# Altium footprint library SamacSys.PcbLib: 48 footprints (part 2 of 3)
Each footprint in its own frame and in the unit in brackets; x right, y up, seen from the top. Pads: shape width x height; smd on the part's side, far side on the other; paste and mask are expansions set on the pad; w line width, h text height; cw(c..) or ccw(c..) is an arc to the next point about the centre after c.
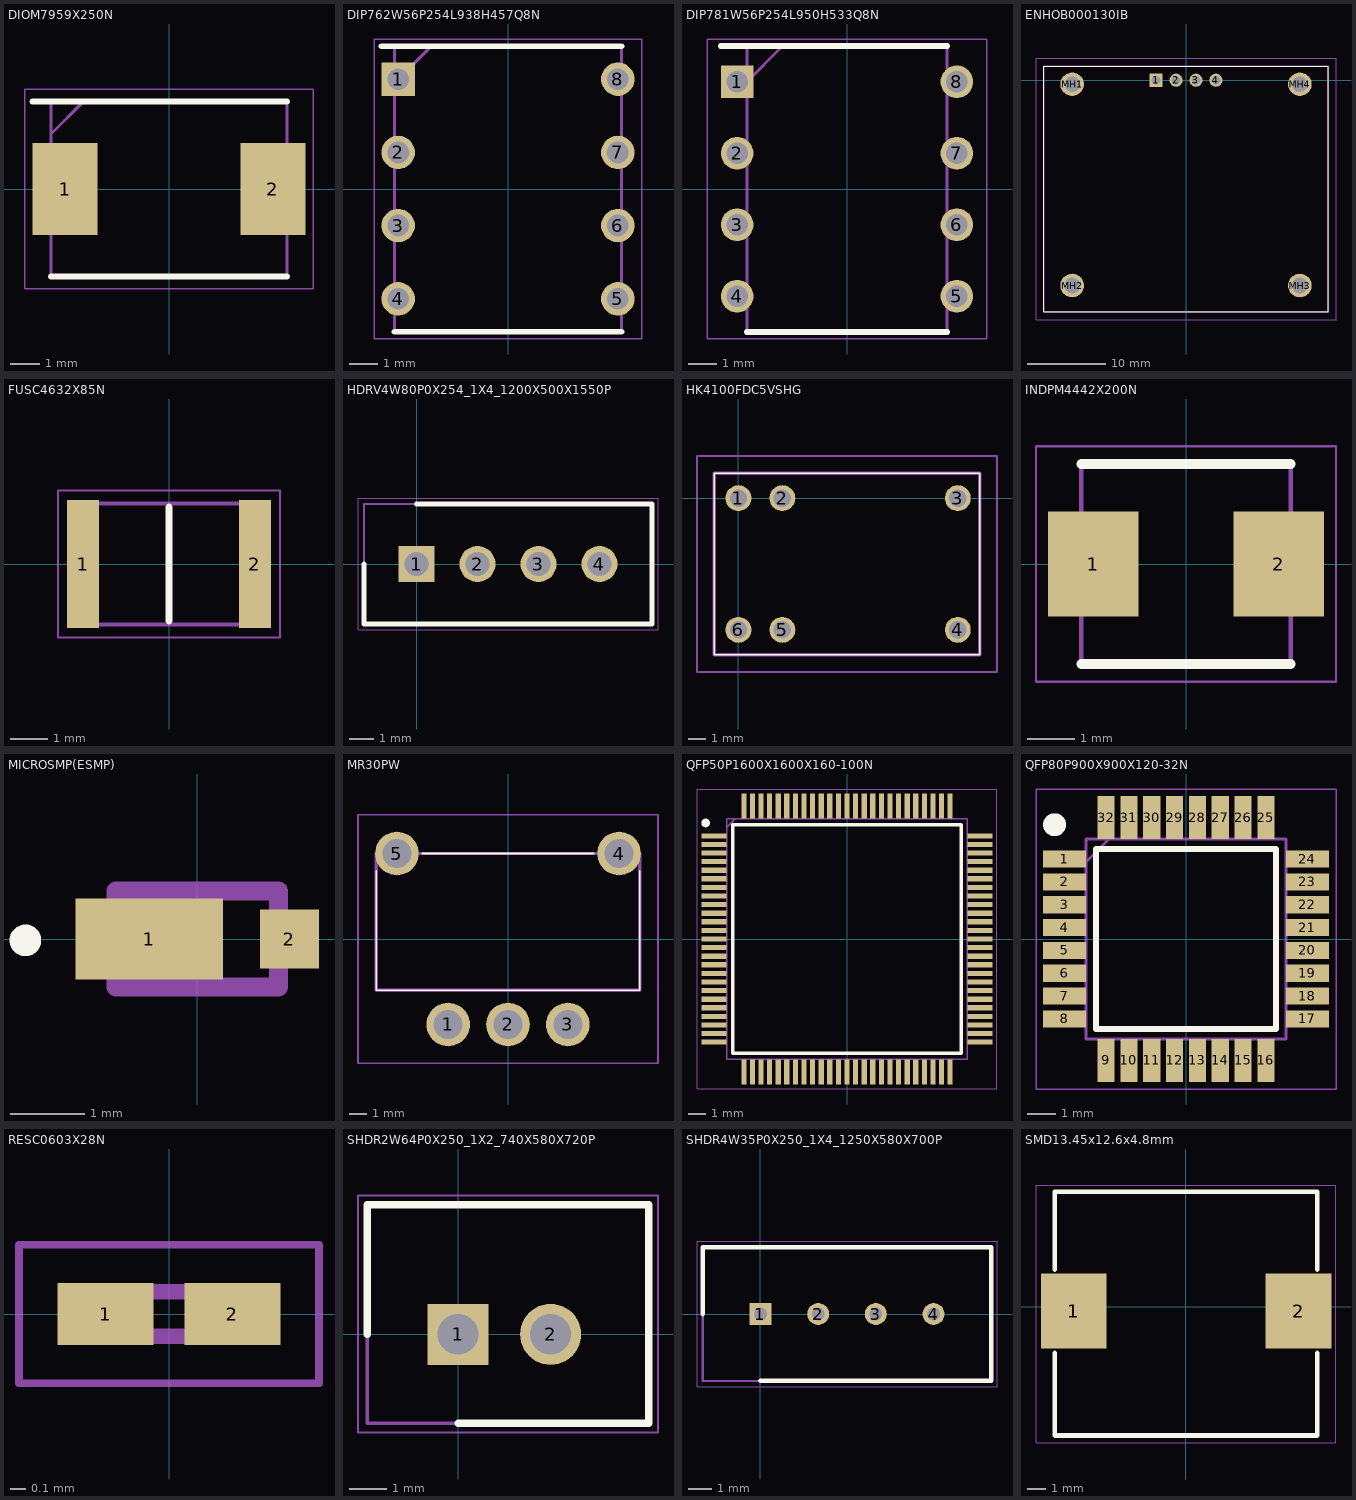
[diagram p1: the footprints below, top view; thin cyan lines are the x and y axes]

## DIOM7959X250N [mm]
pads (2):
  rect 2.2x3.1 smd: 1(-3.5,0) 2(3.5,0)
Top Overlay:
  lines w0.2: -4.6,2.952 3.97,2.952 ; -3.97,-2.952 3.97,-2.952
Mechanical 13:
  lines w0.1: -3.97,1.852 -2.87,2.952 ; -3.97,-2.952 -3.97,2.952 3.97,2.952 3.97,-2.952 -3.97,-2.952
Mechanical 15:
  lines w0.05: -4.85,-3.36 -4.85,3.36 4.85,3.36 4.85,-3.36 -4.85,-3.36
3D body "B540C-13-F.stp": height 2.5, standoff 0, extent -3.97,-2.953 3.97,2.953

## DIP762W56P254L938H457Q8N [mm]
pads (8):
  rect 1.16x1.16 hole 0.76: 1(-3.81,3.81)
  round 1.16 hole 0.76: 2(-3.81,1.27) 3(-3.81,-1.27) 4(-3.81,-3.81) 5(3.81,-3.81) 6(3.81,-1.27) 7(3.81,1.27) 8(3.81,3.81)
Top Overlay:
  lines w0.2: -4.39,4.955 3.935,4.955 ; -3.935,-4.955 3.935,-4.955
Mechanical 13:
  lines w0.1: -3.935,3.685 -2.665,4.955 ; -3.935,-4.955 -3.935,4.955 3.935,4.955 3.935,-4.955 -3.935,-4.955
Mechanical 15:
  lines w0.05: -4.64,-5.205 -4.64,5.205 4.64,5.205 4.64,-5.205 -4.64,-5.205
3D body "DS1307+.stp": height 4.57, standoff -3.5, extent -3.95,-4.687 3.95,4.687

## DIP781W56P254L950H533Q8N [mm]
pads (8):
  rect 1.159x1.159 hole 0.759: 1(-3.905,3.81)
  round 1.159 hole 0.759: 2(-3.905,1.27) 3(-3.905,-1.27) 4(-3.905,-3.81) 5(3.905,-3.81) 6(3.905,-1.27) 7(3.905,1.27) 8(3.905,3.81)
Top Overlay:
  lines w0.2: -4.485,5.08 3.556,5.08 ; -3.556,-5.08 3.556,-5.08
Mechanical 13:
  lines w0.1: -3.556,3.81 -2.286,5.08 ; -3.556,-5.08 3.556,-5.08 3.556,5.08 -3.556,5.08 -3.556,-5.08
Mechanical 15:
  lines w0.05: -4.957,-5.33 4.957,-5.33 4.957,5.33 -4.957,5.33 -4.957,-5.33
3D body "ATTINY85-20PU.stp": height 5.33, standoff -3.5, extent -4.045,-4.75 4.045,4.75

## ENHOB000130IB [mm]
pads (8):
  rect 1.665x1.665 hole 1.11: 1(-3.81,0)
  round 1.665 hole 1.11: 2(-1.27,0) 3(1.27,0) 4(3.81,0)
  round 3 hole 2: MH1(-14.5,-0.5) MH2(-14.5,-26.14) MH3(14.5,-26.14) MH4(14.5,-0.5)
Top Overlay:
  lines w0.1: -18.1,-29.5 -18.1,1.8 18.1,1.8 18.1,-29.5 -18.1,-29.5
Mechanical 13:
  lines w0.2: -18.1,-29.5 -18.1,1.8 18.1,1.8 18.1,-29.5 -18.1,-29.5
Mechanical 15:
  lines w0.1: -19.1,-30.5 -19.1,2.8 19.1,2.8 19.1,-30.5 -19.1,-30.5
3D body "ENH-OB000130IB.stp": height 4.4, standoff -5, extent -18.1,-29.5 18.1,1.8

## FUSC4632X85N [mm]
pads (2):
  rect 0.85x3.43 smd: 1(-2.3,0) 2(2.3,0)
Top Overlay:
  lines w0.2: 0,-1.52 0,1.52
Mechanical 13:
  lines w0.1: -2.275,-1.62 -2.275,1.62 2.275,1.62 2.275,-1.62 -2.275,-1.62
Mechanical 15:
  lines w0.05: -2.975,-1.965 -2.975,1.965 2.975,1.965 2.975,-1.965 -2.975,-1.965
3D body "MF-MSMF050-2.stp": height 0.85, standoff 0, extent -2.275,-1.62 2.275,1.62

## HDRV4W80P0X254_1X4_1200X500X1550P [mm]
pads (4):
  rect 1.5x1.5 hole 1: 1(0,0)
  round 1.5 hole 1: 2(2.54,0) 3(5.08,0) 4(7.62,0)
Top Overlay:
  lines w0.2: -2.19,0 -2.19,-2.5 9.81,-2.5 9.81,2.5 0,2.5
Mechanical 13:
  lines w0.1: -2.19,-2.5 9.81,-2.5 9.81,2.5 -2.19,2.5 -2.19,-2.5
Mechanical 15:
  lines w0.05: -2.44,-2.75 10.06,-2.75 10.06,2.75 -2.44,2.75 -2.44,-2.75

## HK4100FDC5VSHG [mm]
pads (6):
  round 1.5 hole 1: 1(0,0) 2(2.54,0) 3(12.7,0) 4(12.7,-7.62) 5(2.54,-7.62) 6(0,-7.62)
Top Overlay:
  lines w0.1: -1.4,-9.06 -1.4,1.44 13.97,1.44 13.97,-9.06 -1.4,-9.06
Mechanical 13:
  lines w0.2: -1.4,-9.06 -1.4,1.44 13.97,1.44 13.97,-9.06 -1.4,-9.06
Mechanical 15:
  lines w0.1: -2.4,-10.06 -2.4,2.44 14.97,2.44 14.97,-10.06 -2.4,-10.06
3D body "HK4100F-DC5V-SHG.stp": height 12.2, standoff -5, extent -1.4,-9.06 13.97,1.44

## INDPM4442X200N [mm]
pads (2):
  rect 1.9x2.2 smd: 1(-1.95,0) 2(1.95,0)
Top Overlay:
  lines w0.2: -2.2,-2.1 2.2,-2.1 ; -2.2,2.1 2.2,2.1
Mechanical 13:
  lines w0.1: -2.2,-2.1 2.2,-2.1 2.2,2.1 -2.2,2.1 -2.2,-2.1
Mechanical 15:
  lines w0.05: -3.15,-2.475 3.15,-2.475 3.15,2.475 -3.15,2.475 -3.15,-2.475
3D body "CMKD-0420A-1R5M.stp": height 2, standoff 0, extent -2.2,-2.1 2.2,2.1

## MICROSMP(ESMP) [mm]
pads (2):
  rect 2x1.1 smd: 1(-0.65,0)
  rect 0.8x0.8 smd: 2(1.25,0)
Top Overlay:
  circle w0.254: c-2.326,-0.019 r0.087
Mechanical 13:
  lines w0.254: -1.1,-0.65 1.1,-0.65 1.1,0.65 -1.1,0.65 -1.1,-0.65

## MR30PW [mm]
pads (5):
  round 2.55 hole 1.7: 1(-3.5,-5) 2(0,-5) 3(3.5,-5) 4(6.5,5) 5(-6.5,5)
Top Overlay:
  lines w0.1: -7.7,4 -7.7,-3 7.7,-3 7.7,4 ; -5,5 5,5
Mechanical 13:
  lines w0.2: -7.7,-3 7.7,-3 7.7,5 -7.7,5 -7.7,-3
Mechanical 15:
  lines w0.1: -8.775,-7.275 8.775,-7.275 8.775,7.275 -8.775,7.275 -8.775,-7.275

## QFP50P1600X1600X160-100N [mm]
pads (100):
  rect 1.475x0.3 smd: 1(-7.738,6) 2(-7.738,5.5) 3(-7.738,5) 4(-7.738,4.5) 5(-7.738,4) 6(-7.738,3.5) 7(-7.738,3) 8(-7.738,2.5) 9(-7.738,2) 10(-7.738,1.5) 11(-7.738,1) 12(-7.738,0.5) 13(-7.738,0) 14(-7.738,-0.5) 15(-7.738,-1) 16(-7.738,-1.5) 17(-7.738,-2) 18(-7.738,-2.5) 19(-7.738,-3) 20(-7.738,-3.5) 21(-7.738,-4) 22(-7.738,-4.5) 23(-7.738,-5) 24(-7.738,-5.5) 25(-7.738,-6) 51(7.738,-6) 52(7.738,-5.5) 53(7.738,-5) 54(7.738,-4.5) 55(7.738,-4) 56(7.738,-3.5) 57(7.738,-3) 58(7.738,-2.5) 59(7.738,-2) 60(7.738,-1.5) 61(7.738,-1) 62(7.738,-0.5) 63(7.738,0) 64(7.738,0.5) 65(7.738,1) 66(7.738,1.5) 67(7.738,2) 68(7.738,2.5) 69(7.738,3) 70(7.738,3.5) 71(7.738,4) 72(7.738,4.5) 73(7.738,5) 74(7.738,5.5) 75(7.738,6)
  rect 0.3x1.475 smd: 26(-6,-7.738) 27(-5.5,-7.738) 28(-5,-7.738) 29(-4.5,-7.738) 30(-4,-7.738) 31(-3.5,-7.738) 32(-3,-7.738) 33(-2.5,-7.738) 34(-2,-7.738) 35(-1.5,-7.738) 36(-1,-7.738) 37(-0.5,-7.738) 38(0,-7.738) 39(0.5,-7.738) 40(1,-7.738) 41(1.5,-7.738) 42(2,-7.738) 43(2.5,-7.738) 44(3,-7.738) 45(3.5,-7.738) 46(4,-7.738) 47(4.5,-7.738) 48(5,-7.738) 49(5.5,-7.738) 50(6,-7.738) 76(6,7.738) 77(5.5,7.738) 78(5,7.738) 79(4.5,7.738) 80(4,7.738) 81(3.5,7.738) 82(3,7.738) 83(2.5,7.738) 84(2,7.738) 85(1.5,7.738) 86(1,7.738) 87(0.5,7.738) 88(0,7.738) 89(-0.5,7.738) 90(-1,7.738) 91(-1.5,7.738) 92(-2,7.738) 93(-2.5,7.738) 94(-3,7.738) 95(-3.5,7.738) 96(-4,7.738) 97(-4.5,7.738) 98(-5,7.738) 99(-5.5,7.738) 100(-6,7.738)
Top Overlay:
  circle w0.25: c-8.225,6.75 r0.125
  lines w0.2: -6.65,-6.65 -6.65,6.65 6.65,6.65 6.65,-6.65 -6.65,-6.65
Mechanical 13:
  lines w0.1: -7,6.5 -6.5,7 ; -7,-7 -7,7 7,7 7,-7 -7,-7
Mechanical 15:
  lines w0.05: -8.725,-8.725 -8.725,8.725 8.725,8.725 8.725,-8.725 -8.725,-8.725
3D body "STM32F407VET6.stp": height 1.6, standoff 0, extent -8,-8 8,8

## QFP80P900X900X120-32N [mm]
pads (32):
  rect 1.5x0.6 smd: 1(-4.25,2.8) 2(-4.25,2) 3(-4.25,1.2) 4(-4.25,0.4) 5(-4.25,-0.4) 6(-4.25,-1.2) 7(-4.25,-2) 8(-4.25,-2.8) 17(4.25,-2.8) 18(4.25,-2) 19(4.25,-1.2) 20(4.25,-0.4) 21(4.25,0.4) 22(4.25,1.2) 23(4.25,2) 24(4.25,2.8)
  rect 0.6x1.5 smd: 9(-2.8,-4.25) 10(-2,-4.25) 11(-1.2,-4.25) 12(-0.4,-4.25) 13(0.4,-4.25) 14(1.2,-4.25) 15(2,-4.25) 16(2.8,-4.25) 25(2.8,4.25) 26(2,4.25) 27(1.2,4.25) 28(0.4,4.25) 29(-0.4,4.25) 30(-1.2,4.25) 31(-2,4.25) 32(-2.8,4.25)
Top Overlay:
  circle w0.4: c-4.6,4 r0.2
  lines w0.2: -3.15,-3.15 -3.15,3.15 3.15,3.15 3.15,-3.15 -3.15,-3.15
Mechanical 13:
  lines w0.1: -3.5,2.7 -2.7,3.5 ; -3.5,-3.5 -3.5,3.5 3.5,3.5 3.5,-3.5 -3.5,-3.5
Mechanical 15:
  lines w0.05: -5.25,-5.25 -5.25,5.25 5.25,5.25 5.25,-5.25 -5.25,-5.25
3D body "ATMEGA328P-AU.stp": height 1.2, standoff 0, extent -4.5,-4.5 4.5,4.5

## RESC0603X28N [mm]
pads (2):
  rect 0.625x0.4 smd: 1(-0.412,0) 2(0.412,0)
Mechanical 13:
  lines w0.1: -0.29,-0.145 -0.29,0.145 0.29,0.145 0.29,-0.145 -0.29,-0.145
Mechanical 15:
  lines w0.05: -0.975,-0.45 -0.975,0.45 0.975,0.45 0.975,-0.45 -0.975,-0.45
3D body "CPF0201D100RE1.stp": height 0.28, standoff 0, extent -0.29,-0.145 0.29,0.145

## SHDR2W64P0X250_1X2_740X580X720P [mm]
pads (2):
  rect 1.65x1.65 hole 1.1: 1(0,0)
  round 1.65 hole 1.1: 2(2.5,0)
Top Overlay:
  lines w0.2: -2.45,0 -2.45,3.5 5.15,3.5 5.15,-2.4 0,-2.4
Mechanical 13:
  lines w0.1: -2.45,-2.4 5.15,-2.4 5.15,3.5 -2.45,3.5 -2.45,-2.4
Mechanical 15:
  lines w0.05: -2.7,-2.65 5.4,-2.65 5.4,3.75 -2.7,3.75 -2.7,-2.65
3D body "XH-2A.stp": height 7.2, standoff -3.5, extent -2.45,-2.4 4.95,3.4

## SHDR4W35P0X250_1X4_1250X580X700P [mm]
pads (4):
  rect 0.95x0.95 hole 0.55: 1(0,0)
  round 0.95 hole 0.55: 2(2.5,0) 3(5,0) 4(7.5,0)
Top Overlay:
  lines w0.2: -2.5,0 -2.5,2.9 10,2.9 10,-2.9 0,-2.9
Mechanical 13:
  lines w0.1: -2.5,-2.9 10,-2.9 10,2.9 -2.5,2.9 -2.5,-2.9
Mechanical 15:
  lines w0.05: -2.75,-3.15 10.25,-3.15 10.25,3.15 -2.75,3.15 -2.75,-3.15
3D body "XH-4A.stp": height 7, standoff -3.4, extent -2.5,-2.9 10,2.9

## SMD13.45x12.6x4.8mm [mm]
pads (2):
  rect 3.5x4 smd: 1(-5.975,-0.25) 2(6.025,-0.25)
Top Overlay:
  lines w0.254: -6.976,-2.481 -6.976,-6.875 7.024,-6.875 ; -6.975,1.981 -6.975,6.123 7.025,6.123 7.025,1.981 ; 7.025,-6.875 7.025,-2.481
Mechanical 15:
  lines w0.05: -7.979,-7.256 -7.979,1.507 -7.979,6.46 8.023,6.46 8.023,-7.256 -7.979,-7.256
3D body: height 5, standoff 0, extent -6.963,-6.875 7.007,6.079